# Altium footprint library Converter_DCDC.PcbLib: 115 footprints (part 2 of 8)
Each footprint in its own frame and in the unit in brackets; x right, y up, seen from the top. Pads: shape width x height; smd on the part's side, far side on the other; paste and mask are expansions set on the pad; w line width, h text height; cw(c..) or ccw(c..) is an arc to the next point about the centre after c.
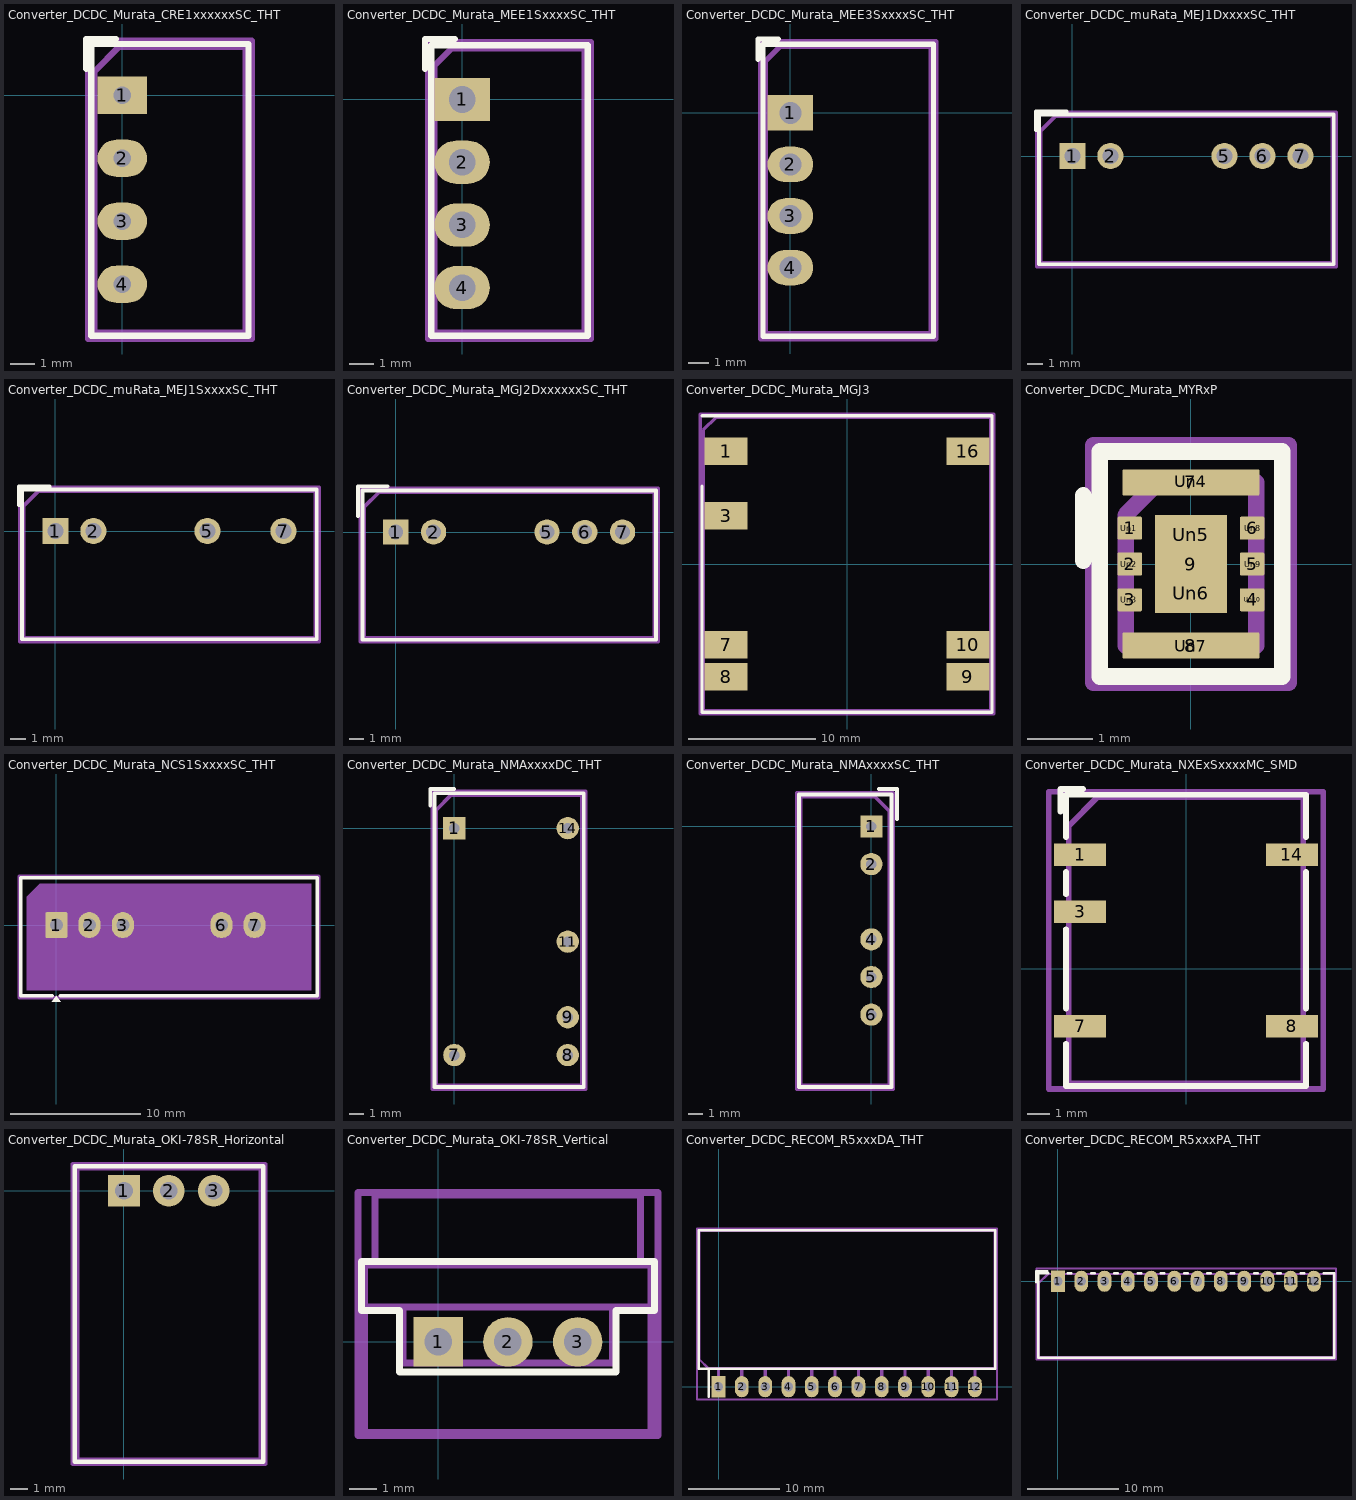
[diagram p1: the footprints below, top view; thin cyan lines are the x and y axes]

## Converter_DCDC_Murata_CRE1xxxxxxSC_THT [mm]
pads (4):
  rect 2x1.5 hole 0.7: 1(0,0)
  rrect100% 2x1.5 hole 0.7: 2(0,-2.54) 3(0,-5.08) 4(0,-7.62)
F.SilkS:
  lines w0.254: -1.45,1.07 -1.45,2.27 -0.25,2.27 ; -1.25,-9.7 5.09,-9.7 5.09,2.07 -1.25,2.07 -1.25,-9.7
Top Assembly:
  lines w0.254: -1.13,-9.58 4.97,-9.58 4.97,1.95 -0.13,1.95 -1.13,0.95 -1.13,-9.58
  text "'.Designator'" at 3.634,-7.603 h1
Top Courtyard:
  lines w0.254: -1.38,-9.83 5.22,-9.83 5.22,2.2 -1.38,2.2 -1.38,-9.83
Top Designator:
  text ".Designator" at -5.733,-4.288 h1.52

## Converter_DCDC_Murata_MEE1SxxxxSC_THT [mm]
pads (4):
  rect 2.25x1.75 hole 1.075: 1(0,0)
  rrect100% 2.25x1.75 hole 1.075: 2(0,-2.54) 3(0,-5.08) 4(0,-7.62)
F.SilkS:
  lines w0.254: -1.5,1.25 -1.5,2.45 -0.3,2.45 ; -1.25,-9.57 5.09,-9.57 5.09,2.2 -1.25,2.2 -1.25,-9.57
Top Assembly:
  lines w0.254: -1.13,-9.45 4.97,-9.45 4.97,2.08 -0.423,2.08 -1.13,1.373 -1.13,-9.45
  text "'.Designator'" at 3.634,-7.603 h1
Top Courtyard:
  lines w0.254: -1.38,-9.7 5.22,-9.7 5.22,2.33 -1.38,2.33 -1.38,-9.7
Top Designator:
  text ".Designator" at -5.758,-4.133 h1.52

## Converter_DCDC_Murata_MEE3SxxxxSC_THT [mm]
pads (4):
  rect 2.25x1.75 hole 1.075: 1(0,0)
  rrect100% 2.25x1.75 hole 1.075: 2(0,-2.54) 3(0,-5.08) 4(0,-7.62)
F.SilkS:
  lines w0.254: -1.6,2.64 -1.6,3.64 -0.6,3.64 ; -1.345,-11.005 7.045,-11.005 7.045,3.385 -1.345,3.385 -1.345,-11.005
Top Assembly:
  lines w0.254: -1.225,-10.885 6.925,-10.885 6.925,3.265 -0.518,3.265 -1.225,2.558 -1.225,-10.885
  text "'.Designator'" at 3.634,-7.603 h1
Top Courtyard:
  lines w0.254: -1.48,-11.14 7.18,-11.14 7.18,3.52 -1.48,3.52 -1.48,-11.14
Top Designator:
  text ".Designator" at -4.828,-4.258 h1.52

## Converter_DCDC_muRata_MEJ1DxxxxSC_THT [mm]
pads (5):
  rect 1.75x1.75 hole 1.075: 1(0,0)
  rrect100% 1.75x1.75 hole 1.075: 2(2.54,0) 5(10.16,0) 6(12.7,0) 7(15.24,0)
F.SilkS:
  lines w0.254: -2.43,1.74 -2.43,2.97 -0.4,2.97 ; -2.23,-7.23 17.47,-7.23 17.47,2.77 -2.23,2.77 -2.23,-7.23
Top Assembly:
  lines w0.254: -2.13,-7.13 17.37,-7.13 17.37,2.67 -1.13,2.67 -2.13,1.67 -2.13,-7.13
  text "'.Designator'" at 3.573,-3.07 h1
Top Courtyard:
  lines w0.254: -2.38,-7.38 17.62,-7.38 17.62,2.92 -2.38,2.92 -2.38,-7.38
Top Designator:
  text ".Designator" at -0.023,-2.713 h1.52

## Converter_DCDC_muRata_MEJ1SxxxxSC_THT [mm]
pads (4):
  rect 1.75x1.75 hole 1.075: 1(0,0)
  rrect100% 1.75x1.75 hole 1.075: 2(2.54,0) 5(10.16,0) 7(15.24,0)
F.SilkS:
  lines w0.254: -2.43,1.74 -2.43,2.97 -0.4,2.97 ; -2.23,-7.23 17.47,-7.23 17.47,2.77 -2.23,2.77 -2.23,-7.23
Top Assembly:
  lines w0.254: -2.13,-7.13 17.37,-7.13 17.37,2.67 -1.13,2.67 -2.13,1.67 -2.13,-7.13
  text "'.Designator'" at 3.573,-3.07 h1
Top Courtyard:
  lines w0.254: -2.38,-7.38 17.62,-7.38 17.62,2.92 -2.38,2.92 -2.38,-7.38
Top Designator:
  text ".Designator" at -0.023,-2.713 h1.52

## Converter_DCDC_Murata_MGJ2DxxxxxxSC_THT [mm]
pads (5):
  rect 1.7x1.7 hole 1: 1(0,0)
  rrect100% 1.7x1.7 hole 1: 2(2.54,0) 5(10.16,0) 7(15.24,0)
  rrect100% 1.7x1.6 hole 1: 6(12.7,0)
F.SilkS:
  lines w0.254: -2.54,1.08 -2.54,3.08 -0.54,3.08 ; -2.24,-7.24 17.48,-7.24 17.48,2.78 -2.24,2.78 -2.24,-7.24
Top Assembly:
  lines w0.254: -2.13,-7.13 17.37,-7.13 17.37,2.67 -1.13,2.67 -2.13,1.67 -2.13,-7.13
  text "'.Designator'" at 3.573,-3.07 h1
Top Courtyard:
  lines w0.254: -2.38,-7.38 17.62,-7.38 17.62,2.92 -2.38,2.92 -2.38,-7.38
Top Designator:
  text ".Designator" at -0.078,-2.658 h1.52

## Converter_DCDC_Murata_MGJ3 [mm]
pads (7):
  rect 3.38x2.16 smd: 1(-9.525,8.89) 3(-9.525,3.81) 7(-9.525,-6.35) 8(-9.525,-8.89) 9(9.525,-8.89) 10(9.525,-6.35) 16(9.525,8.89)
F.SilkS:
  lines w0.254: -11.415,6.115 -11.415,-11.665 11.415,-11.665 11.415,11.665 -11.415,11.665
Top Assembly:
  lines w0.254: -11.305,-11.555 11.305,-11.555 11.305,11.555 -10.305,11.555 -11.305,10.555 -11.305,-11.555
  text "'.Designator'" at -4.047,-0.84 h1
Top Courtyard:
  lines w0.254: -11.56,-11.81 11.56,-11.81 11.56,11.81 -11.56,11.81 -11.56,-11.81
Top Designator:
  text ".Designator" at -7.618,-0.508 h1.52
Cmts.User:
  text "Copper Keepout" at -5.499,-2.317 h1

## Converter_DCDC_Murata_MYRxP [mm]
pads (19):
  rrect10% 0.375x0.35 smd: 1(-0.937,0.55) 2(-0.937,0) 3(-0.937,-0.55) 4(0.937,-0.55) 5(0.937,0) 6(0.937,0.55)
  rrect10% 2.1x0.4 smd: 7(0,1.25) 8(0,-1.25)
  rrect0% 1.1x1.5 smd: 9(0,0)
  rrect10% 0.3x0.3 on Top Paste: Un1(-0.95,0.55) Un2(-0.95,0) Un3(-0.95,-0.55) Un8(0.95,0.55) Un9(0.95,0) Un10(0.95,-0.55)
  rrect10% 2.05x0.325 on Top Paste: Un4(0,1.263) Un7(0,-1.263)
  rrect10% 0.9x0.4 on Top Paste: Un5(0,0.45) Un6(0,-0.45)
F.SilkS:
  lines w0.254: -1.65,0.05 -1.65,1.05 ; -1.4,-1.725 1.4,-1.725 1.4,1.725 -1.4,1.725 -1.4,-1.725
Top Assembly:
  lines w0.254: -1,-1.25 1,-1.25 1,1.25 -0.5,1.25 -1,0.75 -1,-1.25
  text "'.Designator'" at 0.583,-2.828 h0.7
Top Courtyard:
  lines w0.254: -1.5,-1.82 1.5,-1.82 1.5,1.82 -1.5,1.82 -1.5,-1.82
Top Designator:
  text ".Designator" at -7.693,-0.608 h1.52

## Converter_DCDC_Murata_NCS1SxxxxSC_THT [mm]
pads (5):
  rrect15% 1.7x2 hole 1: 1(0,0)
  rrect100% 1.7x2 hole 1: 2(2.54,0) 3(5.12,0) 6(12.7,0) 7(15.24,0)
F.SilkS:
  region: 0.34,-5.91 -0.34,-5.91 0,-5.44
  lines w0.254: -0.296,-5.44 -2.73,-5.44 -2.73,3.63 20.06,3.63 20.06,-5.44 0.296,-5.44
Top Assembly:
  region: 19.6,-5.005 -2.27,-5.005 -2.27,2.195 -1.27,3.195 19.6,3.195
  text "'.Designator'" at 4.623,-1.74 h1
Top Courtyard:
  lines w0.254: -2.87,-5.58 20.2,-5.58 20.2,3.77 -2.87,3.77 -2.87,-5.58
Top Designator:
  text ".Designator" at 1.047,-1.514 h1.52

## Converter_DCDC_Murata_NMAxxxxDC_THT [mm]
pads (6):
  rect 1.5x1.5 hole 0.7: 1(0,0)
  rrect100% 1.5x1.5 hole 0.7: 7(0,-15.24) 8(7.62,-15.24) 9(7.62,-12.7) 11(7.62,-7.62) 14(7.62,0)
F.SilkS:
  lines w0.254: -1.62,1.5 -1.62,2.63 0,2.63 ; -1.34,-17.39 8.7,-17.39 8.7,2.35 -1.34,2.35 -1.34,-17.39
Top Assembly:
  lines w0.254: -1.22,-17.27 8.58,-17.27 8.58,2.23 -0.22,2.23 -1.22,1.23 -1.22,-17.27
  text "'.Designator'" at -0.237,-8.46 h1
Top Courtyard:
  lines w0.254: -1.47,-17.52 8.83,-17.52 8.83,2.48 -1.47,2.48 -1.47,-17.52
Top Designator:
  text ".Designator" at -4.013,-7.953 h1.52

## Converter_DCDC_Murata_NMAxxxxSC_THT [mm]
pads (5):
  rect 1.5x1.5 hole 0.7: 1(0,0)
  rrect100% 1.5x1.5 hole 0.7: 2(0,-2.54) 4(0,-7.62) 5(0,-10.16) 6(0,-12.7)
F.SilkS:
  lines w0.254: 0.5,2.53 1.73,2.53 1.73,0.5 ; 1.33,-17.59 -4.89,-17.59 -4.89,2.15 1.35,2.15 1.35,-17.59
Top Assembly:
  lines w0.254: -4.77,-17.47 1.23,-17.47 1.23,1.03 0.23,2.03 -4.77,2.03 -4.77,-17.47
  text "'.Designator'" at -1.41,-10.047 h1
Top Courtyard:
  lines w0.254: -5.02,-17.72 1.48,-17.72 1.48,2.28 -5.02,2.28 -5.02,-17.72
Top Designator:
  text ".Designator" at -9.263,-8.103 h1.52

## Converter_DCDC_Murata_NXExSxxxxMC_SMD [mm]
pads (5):
  rect 2.3x1 smd: 1(-4.7,5.08) 3(-4.7,2.54) 7(-4.7,-2.54) 8(4.7,-2.54) 14(4.7,5.08)
F.SilkS:
  lines w0.254: -5.577,6.99 -5.577,7.99 -4.577,7.99 ; -5.325,-3.32 -5.325,-5.2 5.325,-5.2 5.325,-3.32 ; -5.325,-1.76 -5.325,1.76 ; -5.325,3.32 -5.325,4.3 ; -5.325,5.86 -5.325,7.74 5.325,7.74 5.325,5.86 ; 5.325,-1.76 5.325,4.3
Top Assembly:
  lines w0.254: -5.207,-5.08 5.207,-5.08 5.207,7.62 -3.937,7.62 -5.207,6.35 -5.207,-5.08
  text "'.Designator'" at -4.037,1.926 h1
Top Courtyard:
  lines w0.254: -6.1,-5.33 6.1,-5.33 6.1,7.87 -6.1,7.87 -6.1,-5.33
Top Designator:
  text ".Designator" at -7.618,0.822 h1.52
Cmts.User:
  text "isolation barrier" at -5.304,-1.454 h1
  text "Keepout" at -2.542,0.156 h1

## Converter_DCDC_Murata_OKI-78SR_Horizontal [mm]
pads (3):
  rect 1.8x1.8 hole 1: 1(0,0)
  round 1.8 hole 1: 2(2.54,0) 3(5.08,0)
F.SilkS:
  lines w0.254: -2.78,1.4 -2.78,-15.36 7.88,-15.36 7.88,1.4 -2.77,1.4
Top Assembly:
  lines w0.254: -2.65,-15.23 7.75,-15.23 7.75,1.27 -2.65,1.27 -2.65,-15.23
  text "'.Designator'" at -1.507,-8.32 h1
Top Courtyard:
  lines w0.254: -2.9,-15.48 8,-15.48 8,1.52 -2.9,1.52 -2.9,-15.48
Top Designator:
  text ".Designator" at -5.068,-7.488 h1.52

## Converter_DCDC_Murata_OKI-78SR_Vertical [mm]
pads (3):
  rect 1.8x1.8 hole 1: 1(0,0)
  round 1.8 hole 1: 2(2.54,0) 3(5.08,0)
F.SilkS:
  lines w0.254: 7.88,1.14 6.48,1.14 6.48,-1.1 -1.4,-1.1 -1.4,1.14 -2.79,1.14 -2.79,2.92 7.88,2.92 7.88,1.15
Top Assembly:
  lines w0.254: -2.286,2.794 -2.286,5.334 7.366,5.334 7.366,2.794 ; -1.27,1.27 -1.27,-0.762 -0.406,-0.762 0.406,-0.762 2.134,-0.762 2.946,-0.762 4.674,-0.762 5.486,-0.762 6.35,-0.762 6.35,1.27 ; -2.667,1.27 7.747,1.27 ; -2.667,1.27 -2.667,-3.302 7.747,-3.302 7.747,1.27 ; -2.667,1.27 -2.667,2.794 7.747,2.794 7.747,1.27
  text "'.Designator'" at -1.507,1.115 h1
Top Courtyard:
  lines w0.254: -2.91,-3.41 8,-3.41 8,5.44 -2.91,5.44 -2.91,-3.41
Top Designator:
  text ".Designator" at -5.073,0.507 h1.52

## Converter_DCDC_RECOM_R5xxxDA_THT [mm]
pads (12):
  rect 1.5x2.3 hole 1: 1(0,0)
  rrect100% 1.5x2.3 hole 1: 2(2.54,0) 3(5.08,0) 4(7.62,0) 5(10.16,0) 6(12.7,0) 7(15.24,0) 8(17.78,0) 9(20.32,0) 10(22.86,0) 11(25.4,0) 12(27.94,0)
F.SilkS:
  lines w0.254: -1.07,-1.09 -1.07,1.94 ; -2.16,1.94 30.16,1.94 30.16,17.06 -2.16,17.06 -2.16,1.94
Top Assembly:
  lines w0.254: -0.05,0 -0.05,2 ; 0.05,0 0.05,2 ; 2.49,0 2.49,2 ; 2.59,0 2.59,2 ; 5.03,0 5.03,2 ; 5.13,0 5.13,2 ; 7.57,0 7.57,2 ; 7.67,0 7.67,2 ; 10.11,0 10.11,2 ; 10.21,0 10.21,2 ; 12.65,0 12.65,2 ; 12.75,0 12.75,2 ; 15.19,0 15.19,2 ; 15.29,0 15.29,2 ; 17.73,0 17.73,2 ; 17.83,0 17.83,2 ; 20.27,0 20.27,2 ; 20.37,0 20.37,2 ; 22.81,0 22.81,2 ; 22.91,0 22.91,2 ; 25.35,0 25.35,2 ; 25.45,0 25.45,2 ; 27.89,0 27.89,2 ; 27.99,0 27.99,2 ; -2.1,3 -1.1,2 30.1,2 30.1,17 -2.1,17 -2.1,3
  text "'.Designator'" at 9.923,8.66 h1
Top Courtyard:
  lines w0.254: -2.35,-1.4 30.35,-1.4 30.35,17.25 -2.35,17.25 -2.35,-1.4
Top Designator:
  text ".Designator" at 6.382,7.417 h1.52

## Converter_DCDC_RECOM_R5xxxPA_THT [mm]
pads (12):
  rect 1.5x2.3 hole 1: 1(0,0)
  rrect100% 1.5x2.3 hole 1: 2(2.54,0) 3(5.08,0) 4(7.62,0) 5(10.16,0) 6(12.7,0) 7(15.24,0) 8(17.78,0) 9(20.32,0) 10(22.86,0) 11(25.4,0) 12(27.94,0)
F.SilkS:
  lines w0.254: -2.4,-0.14 -2.4,1.1 -1.16,1.1 ; -1.07,0.86 -2.16,0.86 -2.16,-8.36 30.16,-8.36 30.16,0.86 29.01,0.86 ; 1.07,0.86 1.47,0.86 ; 3.61,0.86 4.01,0.86 ; 6.15,0.86 6.55,0.86 ; 8.69,0.86 9.09,0.86 ; 11.23,0.86 11.63,0.86 ; 13.77,0.86 14.17,0.86 ; 16.31,0.86 16.71,0.86 ; 18.85,0.86 19.25,0.86 ; 21.39,0.86 21.79,0.86 ; 23.93,0.86 24.33,0.86 ; 26.47,0.86 26.87,0.86
Top Assembly:
  lines w0.254: -2.1,-8.3 30.1,-8.3 30.1,0.8 -1.1,0.8 -2.1,-0.2 -2.1,-8.3
  text "'.Designator'" at 9.923,-4.59 h1
Top Courtyard:
  lines w0.254: -2.35,-8.55 30.35,-8.55 30.35,1.4 -2.35,1.4 -2.35,-8.55
Top Designator:
  text ".Designator" at 6.357,-4.083 h1.52